# Altium schematic symbol library LT3120JV&hash_PBF.SchLib: 2 symbols
Pins are listed as number, name and electrical type; pins without a type are passive.

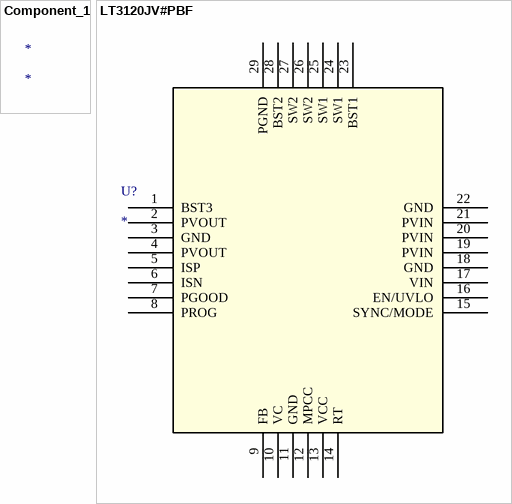
[diagram p0: symbols Component_1 to LT3120JV#PBF]

## Component_1
designator *

## LT3120JV#PBF
designator U?
No Description Available; Mfr_Name: Analog Devices Inc; RefDes: RefDes; Type: Type
footprint LQFN28_Rev0_ADI
pins: 1 BST3, 2 PVOUT, 3 GND, 4 PVOUT, 5 ISP, 6 ISN, 7 PGOOD, 8 PROG, 9 FB, 10 VC, 11 GND, 12 MPCC, 13 VCC, 14 RT, 15 SYNC/MODE, 16 EN/UVLO, 17 VIN, 18 GND, 19 PVIN, 20 PVIN, 21 PVIN, 22 GND, 23 BST1, 24 SW1, 25 SW1, 26 SW2, 27 SW2, 28 BST2, 29 PGND